# Altium footprint library 8Bit WS2812B RGB Line1.PcbLib: 3 footprints
Each footprint in its own frame and in the unit in brackets; x right, y up, seen from the top. Pads: shape width x height; smd on the part's side, far side on the other; paste and mask are expansions set on the pad; w line width, h text height; cw(c..) or ccw(c..) is an arc to the next point about the centre after c.
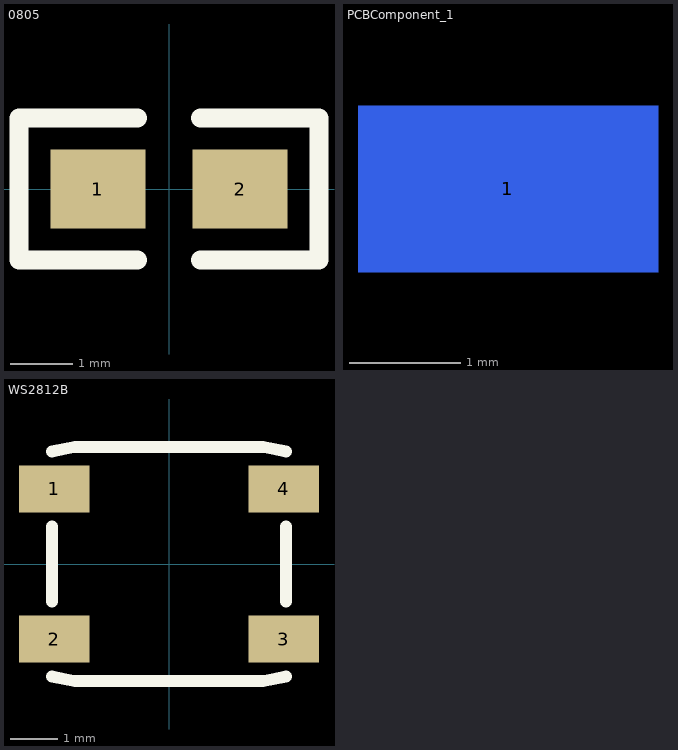
[diagram p0: the footprints below, top view; thin cyan lines are the x and y axes]

## 0805 [mil]
pads (2):
  rect 60x50 smd: 1(-45,0) 2(45,0)
Top Overlay:
  lines w12: -20,-45 -95,-45 -95,45 -20,45 ; 20,-45 95,-45 95,45 20,45

## PCBComponent_1 [mm]
pads (1):
  rect 2.7x1.5 smd far side: 1(6.58,2.84)

## WS2812B [mm]
pads (4):
  rect 1.5x1 smd: 1(-2.45,1.6) 2(-2.45,-1.6) 3(2.45,-1.6) 4(2.45,1.6)
Top Overlay:
  lines w0.254: -2.5,-2.4 -2,-2.5 2,-2.5 2.5,-2.4 ; -2.5,-0.8 -2.5,0.8 ; 2.5,-0.8 2.5,0.8 ; 2.5,2.4 2,2.5 -2,2.5 ; -2,2.5 -2.5,2.4 -2,2.5
3D body "User Library-ws2812B-1.STEP": height 1.54, standoff -0.03, extent -2.7,-2.5 2.7,2.5